# EAGLE library part IC2 (library CAN_BUS_Interface_v2)
CAN Bus Controller
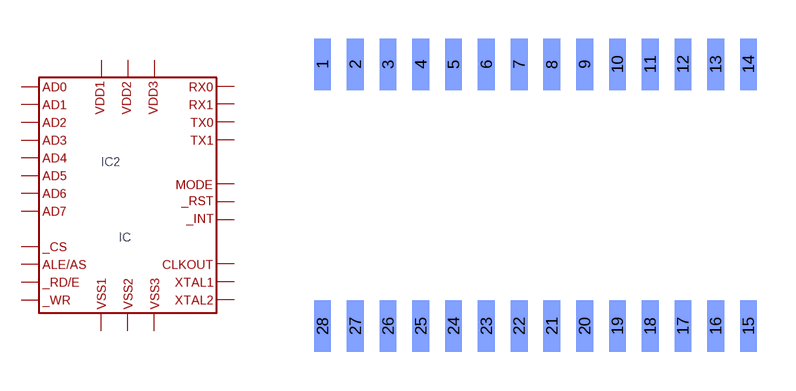
[diagram p2: symbol with the pads of IC2; footprint IC2]

Designator prefix IC

## IC2  [IC2]
1  AD6
2  AD7
3  ALE/AS  in
4  _CS  in
5  _RD/E  in
6  _WR  in
7  CLKOUT  out
8  VSS1  out
9  XTAL1  in
10  XTAL2  in
11  MODE  in
12  VDD3  pwr
13  TX0  out
14  TX1  out
15  VSS3  out
16  _INT  out
17  _RST  in
18  VDD2  pwr
19  RX0  in
20  RX1  in
21  VSS2  out
22  VDD1  pwr
23  AD0
24  AD1
25  AD2
26  AD3
27  AD4
28  AD5

## Footprint IC2 (pad centres in mm)
SO28
smd 0.65 x 2 bottom: 1 0,0; 2 1.27,0; 3 2.54,0; 4 3.81,0; 5 5.08,0; 6 6.35,0; 7 7.62,0; 8 8.89,0; 9 10.16,0; 10 11.43,0; 11 12.7,0; 12 13.97,0; 13 15.24,0; 14 16.51,0; 15 16.51,-10.16; 16 15.24,-10.16; 17 13.97,-10.16; 18 12.7,-10.16; 19 11.43,-10.16; 20 10.16,-10.16; 21 8.89,-10.16; 22 7.62,-10.16; 23 6.35,-10.16; 24 5.08,-10.16; 25 3.81,-10.16; 26 2.54,-10.16; 27 1.27,-10.16; 28 0,-10.16